# EAGLE library part TPS61085TDGKR (library IC)
IC REG BOOST ADJ 2A 8VSSOP Manufacturer's datasheet <https://www.ti.com/lit/ds/symlink/tps61085t.pdf?HQS=dis-dk-null-digikeymode-dsf-pf-null-wwe&ts=1645516526225&ref_url=https%253A%252F%252Fwww.ti.com%252Fgeneral%252Fdocs%252Fsuppproductinfo.tsp%253FdistId%253D10%2526gotoUrl%253Dhttps%253A%252F%252Fwww.ti.com%252Flit%252Fgpn%252Ftps61085t>
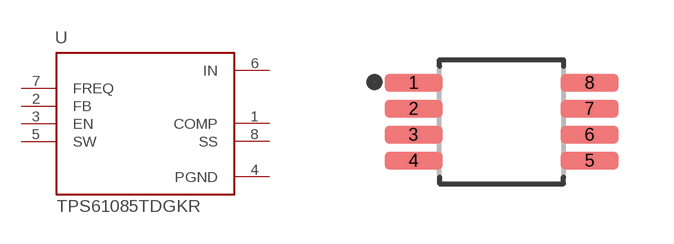
[diagram p26: symbol with the pads of 8-VSSOP; footprint 8-VSSOP]

Designator prefix U

## TPS61085TDGKR (CREATED_BY: PCBLayout.com; DIGIKEY_PARTNO: 296-36998-6-ND; MANUFACTURER: Texas Instruments; MPN: TPS61085TDGKR; PACKAGE: 8-VSSOP)  [8-VSSOP]
1  COMP
2  FB  in
3  EN  in
4  PGND  pwr
5  SW  in
6  IN  pwr
7  FREQ  in
8  SS  out

## Footprint 8-VSSOP (pad centres in mm)
Small Outline Pkg (SOP), 0.65 mm pitch; 8 pin, 3.00 mm L X 3.00 mm W X 1.10 mm H body PCB Libraries Packages
smd 1.45 x 0.46: 1 -2.2,0.975; 2 -2.2,0.325; 3 -2.2,-0.325; 4 -2.2,-0.975; 5 2.2,-0.975; 6 2.2,-0.325; 7 2.2,0.325; 8 2.2,0.975